# EAGLE library part HX711 (library hiveScale)
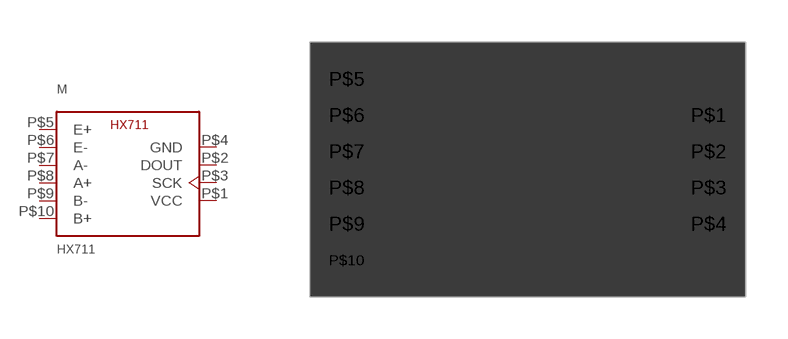
[diagram p1: symbol with the pads of HX711; footprint HX711]

Designator prefix M

## HX711  [HX711]
P$1  VCC  pwr
P$2  DOUT  out
P$3  SCK  in
P$4  GND  pwr
P$5  E+  pwr
P$6  E-  pwr
P$7  A-
P$8  A+
P$9  B-
P$10  B+

## Footprint HX711 (pad centres in mm)
drill 0.6 square: P$1 5.08,5.08; P$2 5.08,3.81; P$3 5.08,2.54; P$4 5.08,1.27; P$5 -7.62,6.35; P$6 -7.62,5.08; P$7 -7.62,3.81; P$8 -7.62,2.54; P$9 -7.62,1.27; P$10 -7.62,0